# Altium schematic symbol library Shift Register.SchLib: 7 symbols
Pins are listed as number, name and electrical type; pins without a type are passive.

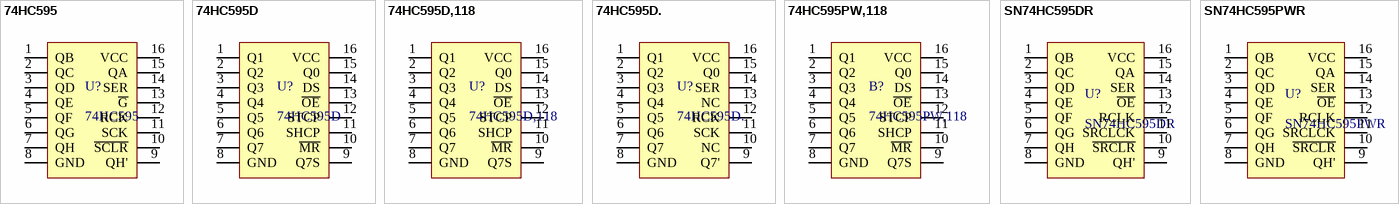
[diagram p0: symbols 74HC595 to SN74HC595PWR]

## 74HC595
designator U?
GR(国睿) SOP-16 串入并出; 制造商: GR(国睿); 类别: 移位寄存器; 子类别: 74HC系列; 工作电压: 2V~6V; 元件数: 1; 每个元件位数: 8; 封装: SOP-16
footprint GR-SOP16 (SOP, 16-Leads, Body 9.90x3.90mm, Pitch 1.27mm, IPC Medium Density)
pins: 1 QB, 2 QC, 3 QD, 4 QE, 5 QF, 6 QG, 7 QH, 8 GND, 9 QH', 10 ~{SCLR}, 11 SCK, 12 RCK, 13 ~{G}, 14 SER, 15 QA, 16 VCC

## 74HC595D
designator U?
JSMSEMI(杰盛微) SOIC-16 串入并出; 类别: 移位寄存器; 子类别: 74HC系列; 工作电压: 2V~6V; 元件数: 1; 每个元件位数: 8; 制造商: JSMSEMI(杰盛微); 封装: SOIC-16
footprint JSMSEMI-SOP16 (SOP, 16-Leads, Body 9.90x3.95mm, Pitch 1.27mm, IPC Medium Density)
pins: 1 Q1, 2 Q2, 3 Q3, 4 Q4, 5 Q5, 6 Q6, 7 Q7, 8 GND, 9 Q7S, 10 ~{MR}, 11 SHCP, 12 STCP, 13 ~{OE}, 14 DS, 15 Q0, 16 VCC

## 74HC595D,118
designator U?
Nexperia(安世) SOIC-16 串入并出; 类别: 移位寄存器; 子类别: 74HC系列; 工作电压: 2V~6V; 元件数: 1; 每个元件位数: 8; 制造商: Nexperia(安世); 封装: SOIC-16
footprint SOT109-1_118 (nexperia SOT109-1_118)
pins: 1 Q1, 2 Q2, 3 Q3, 4 Q4, 5 Q5, 6 Q6, 7 Q7, 8 GND, 9 Q7S, 10 ~{MR}, 11 SHCP, 12 STCP, 13 ~{OE}, 14 DS, 15 Q0, 16 VCC

## 74HC595D.
designator U?
FM(富满) SOP-16 串入并出 LED单色显示屏驱动，不能与其他595替换; 制造商: FM(富满); 类别: 移位寄存器; 子类别: 74HC系列; 工作电压: 3V~5V; 元件数: 1; 每个元件位数: 8; 封装: SOP-16
footprint FM-SOP16 (FM(富满) 74HC595.)
pins: 1 Q1, 2 Q2, 3 Q3, 4 Q4, 5 Q5, 6 Q6, 7 Q7, 8 GND, 9 Q7', 10 NC "悬空", 11 SCK, 12 RCK, 13 NC "悬空", 14 SER, 15 Q0, 16 VCC

## 74HC595PW,118
designator B?
Nexperia(安世) TSSOP-16 串入并出; 类别: 移位寄存器; 子类别: 74HC系列; 工作电压: 2V~6V; 元件数: 1; 每个元件位数: 8; 制造商: Nexperia(安世); 封装: TSSOP-16
footprint SOT403-1_118
pins: 1 Q1, 2 Q2, 3 Q3, 4 Q4, 5 Q5, 6 Q6, 7 Q7, 8 GND, 9 Q7S, 10 ~{MR}, 11 SHCP, 12 STCP, 13 ~{OE}, 14 DS, 15 Q0, 16 VCC

## SN74HC595DR
designator U?
TI(德州仪器) SOIC-16 串入并出; 类别: 移位寄存器; 子类别: 74HC系列; 工作电压: 2V~6V; 元件数: 1; 每个元件位数: 8; 制造商: TI(德州仪器); 封装: SOIC-16
footprint SN74HC595DR (TI SN74HC595DR 推荐焊盘)
pins: 1 QB, 2 QC, 3 QD, 4 QE, 5 QF, 6 QG, 7 QH, 8 GND, 9 QH', 10 ~{SRCLR}, 11 SRCLCK, 12 RCLK, 13 ~{OE}, 14 SER, 15 QA, 16 VCC

## SN74HC595PWR
designator U?
TI(德州仪器) SOIC-16 串入并出; 封装: TSSOP-16; 类别: 移位寄存器; 子类别: 74HC系列; 工作电压: 2V~6V; 元件数: 1; 每个元件位数: 8; 制造商: TI(德州仪器)
footprint SN74HC595PWR (TI SN74HC595PWR 推荐焊盘)
pins: 1 QB, 2 QC, 3 QD, 4 QE, 5 QF, 6 QG, 7 QH, 8 GND, 9 QH', 10 ~{SRCLR}, 11 SRCLCK, 12 RCLK, 13 ~{OE}, 14 SER, 15 QA, 16 VCC